# Altium footprint library DMG7430LFG-7.PcbLib: 1 footprints
Each footprint in its own frame and in the unit in brackets; x right, y up, seen from the top. Pads: shape width x height; smd on the part's side, far side on the other; paste and mask are expansions set on the pad; w line width, h text height; cw(c..) or ccw(c..) is an arc to the next point about the centre after c.
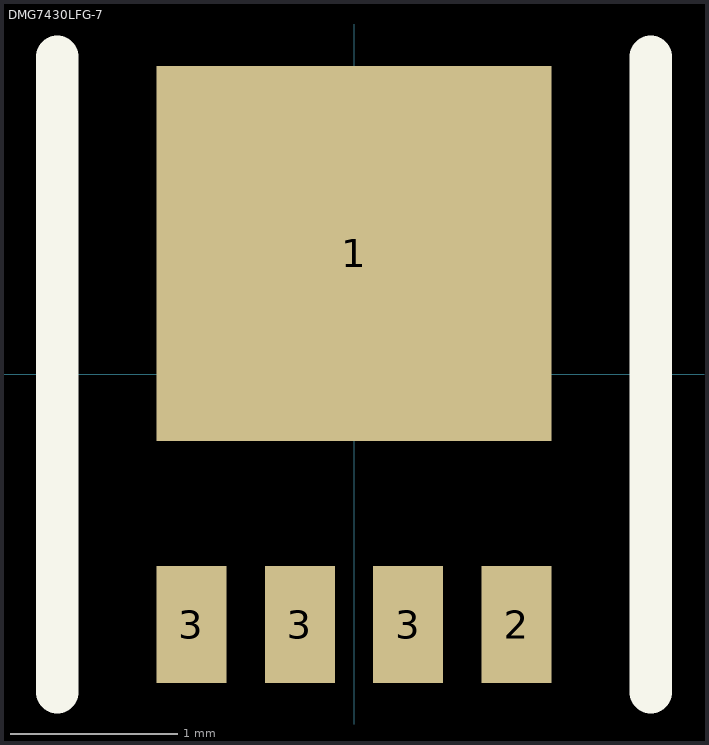
[diagram p0: the footprint, top view; thin cyan lines are the x and y axes]

## DMG7430LFG-7 [mm]
pads (5):
  rect 2.37x2.25 smd: 1(0,0.725)
  rect 0.42x0.7 smd: 2(0.975,-1.5) 3(-0.975,-1.5) 3(-0.325,-1.5) 3(0.325,-1.5)
Top Overlay:
  lines w0.254: -1.778,-1.905 -1.778,1.905 ; 1.778,-1.905 1.778,1.905
3D body: height 0.85, standoff 0, extent -1.675,-1.675 1.675,1.675